# EAGLE library part EDGE_ICSP (library Ava)
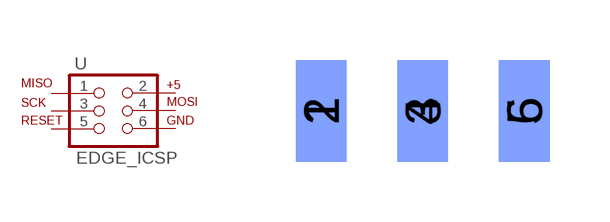
[diagram p30: symbol with the pads of EDGE_MOUNTED_ICSP; footprint EDGE_MOUNTED_ICSP]

Designator prefix -

## EDGE_ICSP  [EDGE_MOUNTED_ICSP]
1  1  pas
2  2  pas
3  3  pas
4  4  pas
5  5  pas
6  6  pas

## Footprint EDGE_MOUNTED_ICSP (pad centres in mm)
smd 1.27 x 2.54 bottom: 1 -2.54,0; 3 0,0; 5 2.54,0
smd 1.27 x 2.54: 2 -2.54,0; 4 0,0; 6 2.54,0